# Altium footprint library libreriaPcb.PcbLib: 683 footprints (part 30 of 44)
Each footprint in its own frame and in the unit in brackets; x right, y up, seen from the top. Pads: shape width x height; smd on the part's side, far side on the other; paste and mask are expansions set on the pad; w line width, h text height; cw(c..) or ccw(c..) is an arc to the next point about the centre after c.
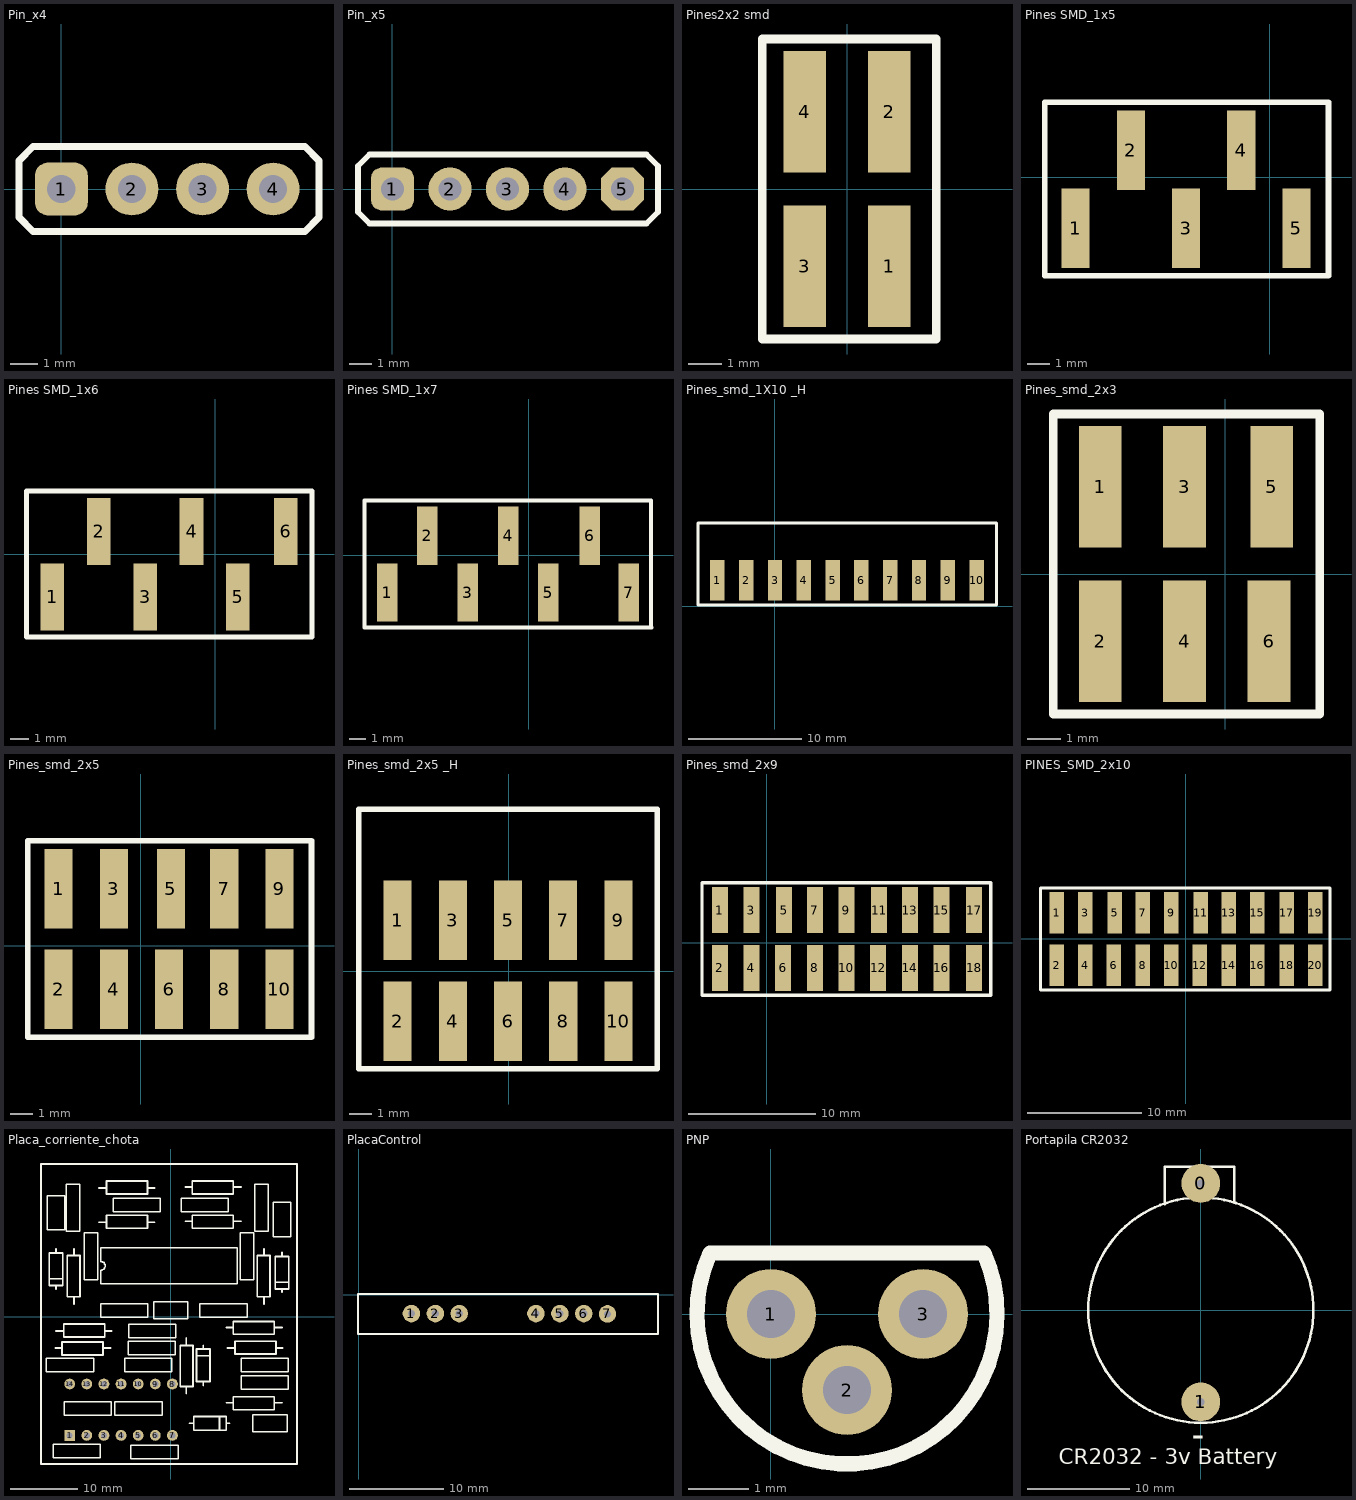
[diagram p29: the footprints below, top view; thin cyan lines are the x and y axes]

## Pin_x4 [mil]
pads (4):
  rrect50% 75x75 / inner round 0 / far side rrect50% 75x75 hole 40: 1(0,0)
  round 75 / inner round 0 / far side round 75 hole 40: 2(100,0) 3(200,0) 4(300,0)
Top Overlay:
  lines w10: -60,-40 -40,-60 345,-60 365,-40 365,40 345,60 -40,60 -60,40 -60,-40

## Pin_x5 [mil]
pads (5):
  rrect50% 75x75 / inner round 0 / far side rrect50% 75x75 hole 40: 1(0,0)
  round 75 / inner round 0 / far side round 75 hole 40: 2(100,0) 3(200,0) 4(300,0)
  oct 75x75 / inner round 0 / far side oct 75x75 hole 40: 5(400,0)
Top Overlay:
  lines w10: 441,60 -40,60 -60,40 -60,-40 -40,-60 442,-60 462,-40 462,40 442,60

## Pines2x2 smd [mm]
pads (4):
  rect 1.27x3.6 smd: 1(1.25,-2.286) 2(1.25,2.286) 3(-1.25,-2.286) 4(-1.25,2.286)
Top Overlay:
  lines w0.254: -2.509,-4.445 -2.509,4.445 2.647,4.445 2.647,-4.445 -2.509,-4.445
3D body: height 3, standoff 1, extent -2.357,-2.286 2.5,2.286
3D body: height 0.8, standoff 0, extent 0.869,-3.936 1.669,-0.636
3D body: height 10.2, standoff 0.2, extent -1.69,-1.669 -0.893,-0.871
3D body: height 10.2, standoff 0.2, extent 0.85,-1.669 1.647,-0.871
3D body: height 10.2, standoff 0.2, extent -1.69,0.871 -0.893,1.669
3D body: height 10.2, standoff 0.2, extent 0.85,0.871 1.647,1.669
3D body: height 0.8, standoff 0, extent -1.631,-3.936 -0.831,-0.636
3D body: height 0.8, standoff 0, extent -1.669,0.636 -0.869,3.936
3D body: height 0.8, standoff 0, extent 0.869,0.636 1.669,3.936

## Pines SMD_1x5 [mil]
pads (5):
  rect 50x141.73 smd: 1(-346,-91) 2(-247.57,48) 3(-149.15,-91) 4(-50.72,48) 5(47.43,-91)
Top Overlay:
  lines w10: -401,-176 105,-176 105,134 -401,134 -401,-176
3D body: height 401.57, standoff 7.87, extent -261.63,-31.71 -230.25,-0.28
3D body: height 401.57, standoff 7.87, extent -65.69,-32 -34.31,-0.57
3D body: height 401.57, standoff 7.87, extent -161.63,-33.71 -130.25,-2.28
3D body: height 401.57, standoff 7.87, extent -361.63,-33.71 -330.25,-2.28
3D body: height 31.5, standoff 0, extent -264.07,-16.96 -232.58,112.96
3D body: height 31.5, standoff 0, extent -67.22,-16.96 -35.73,112.96
3D body: height 31.5, standoff 0, extent -165.65,-155.96 -134.15,-26.04
3D body: height 31.5, standoff 0, extent -362.5,-155.96 -331,-26.04
3D body: height 31.5, standoff 0, extent 32.43,-155.96 63.92,-26.04
3D body: height 401.57, standoff 7.87, extent 33.37,-33.71 64.75,-2.28
3D body: height 31.5, standoff 0, extent -67.5,-16.96 -36,112.96
3D body: height 118.11, standoff 39.37, extent -393.21,-65.02 95,30

## Pines SMD_1x6 [mil]
pads (6):
  rect 50x141.73 smd: 1(-346,-91) 2(-247.57,48) 3(-149.15,-91) 4(-50.72,48) 5(47.43,-91) 6(149,48)
Top Overlay:
  lines w10: -401,-176 -401,134 205,134 205,-176 -401,-176
3D body: height 31.5, standoff 0, extent -67.5,-16.96 -36,112.96
3D body: height 401.57, standoff 7.87, extent 133.37,-31.71 164.75,-0.28
3D body: height 401.57, standoff 7.87, extent 33.37,-33.71 64.75,-2.28
3D body: height 31.5, standoff 0, extent 132.5,-16.96 164,112.96
3D body: height 31.5, standoff 0, extent 32.43,-155.96 63.92,-26.04
3D body: height 31.5, standoff 0, extent -362.5,-155.96 -331,-26.04
3D body: height 31.5, standoff 0, extent -165.65,-155.96 -134.15,-26.04
3D body: height 31.5, standoff 0, extent -67.22,-16.96 -35.73,112.96
3D body: height 31.5, standoff 0, extent -264.07,-16.96 -232.58,112.96
3D body: height 401.57, standoff 7.87, extent -361.63,-33.71 -330.25,-2.28
3D body: height 401.57, standoff 7.87, extent -161.63,-33.71 -130.25,-2.28
3D body: height 401.57, standoff 7.87, extent -65.69,-32 -34.31,-0.57
3D body: height 401.57, standoff 7.87, extent -261.63,-31.71 -230.25,-0.28
3D body: height 118.11, standoff 39.37, extent -393.21,-70 195,30

## Pines SMD_1x7 [mil]
pads (7):
  rect 50x141.73 smd: 1(-346,-91) 2(-247.57,48) 3(-149.15,-91) 4(-50.72,48) 5(47.43,-91) 6(149,48) 7(244.28,-91)
Top Overlay:
  lines w10: -106,-176 299,-176 ; 4,-176 -401,-176 -401,134 298,134 298,-176 189,-176
3D body: height 31.5, standoff 0, extent -67.5,-16.96 -36,112.96
3D body: height 401.57, standoff 7.87, extent 133.37,-31.71 164.75,-0.28
3D body: height 401.57, standoff 7.87, extent 33.37,-33.71 64.75,-2.28
3D body: height 31.5, standoff 0, extent 132.5,-16.96 164,112.96
3D body: height 31.5, standoff 0, extent 32.43,-155.96 63.92,-26.04
3D body: height 31.5, standoff 0, extent -362.5,-155.96 -331,-26.04
3D body: height 31.5, standoff 0, extent -165.65,-155.96 -134.15,-26.04
3D body: height 31.5, standoff 0, extent -67.22,-16.96 -35.73,112.96
3D body: height 31.5, standoff 0, extent -264.07,-16.96 -232.58,112.96
3D body: height 401.57, standoff 7.87, extent -361.63,-33.71 -330.25,-2.28
3D body: height 401.57, standoff 7.87, extent -161.63,-33.71 -130.25,-2.28
3D body: height 401.57, standoff 7.87, extent -65.69,-32 -34.31,-0.57
3D body: height 401.57, standoff 7.87, extent -261.63,-31.71 -230.25,-0.28
3D body: height 401.57, standoff 7.87, extent 230.31,-34.43 261.69,-3
3D body: height 118.11, standoff 39.37, extent -393.21,-114 294,66

## Pines_smd_1X10 _H [mm]
pads (10):
  rect 1.27x3.6 smd: 1(-5.075,2.3) 2(-2.535,2.3) 3(0.005,2.3) 4(2.545,2.3) 5(5.085,2.3) 6(7.625,2.3) 7(10.165,2.3) 8(12.705,2.3) 9(15.245,2.3) 10(17.785,2.3)
Top Overlay:
  lines w0.254: -6.8,0.125 -6.8,7.35 3.857,7.35 19.55,7.35 19.55,0.125 3.163,0.125 -6.8,0.125
3D body: height 6.1, standoff 0, extent -6.55,4.534 19.25,7.116
3D body: height 2.18, standoff 1.38, extent 4.68,2.825 5.477,9.825
3D body: height 1.78, standoff 0, extent 4.679,2.4 5.479,3.2
3D body: height 0.8, standoff 0, extent 4.679,1.325 5.479,2.825
3D body: height 2.18, standoff 1.38, extent 2.148,2.85 2.945,9.85
3D body: height 1.78, standoff 0, extent 2.147,2.425 2.947,3.225
3D body: height 0.8, standoff 0, extent 2.147,1.35 2.947,2.85
3D body: height 2.18, standoff 1.38, extent -0.384,2.875 0.413,9.875
3D body: height 1.78, standoff 0, extent -0.386,2.45 0.414,3.25
3D body: height 0.8, standoff 0, extent -0.386,1.375 0.414,2.875
3D body: height 2.18, standoff 1.38, extent -2.916,2.875 -2.119,9.875
3D body: height 1.78, standoff 0, extent -2.918,2.45 -2.118,3.25
3D body: height 0.8, standoff 0, extent -2.918,1.375 -2.118,2.875
3D body: height 0.8, standoff 0, extent -5.45,1.375 -4.65,2.875
3D body: height 1.78, standoff 0, extent -5.45,2.45 -4.65,3.25
3D body: height 2.18, standoff 1.38, extent -5.448,2.875 -4.652,9.875
3D body: height 2.18, standoff 1.38, extent 7.213,2.875 8.009,9.875
3D body: height 1.78, standoff 0, extent 7.211,2.45 8.011,3.25
3D body: height 0.8, standoff 0, extent 7.211,1.375 8.011,2.875
3D body: height 0.8, standoff 0, extent 9.743,1.375 10.543,2.875
3D body: height 1.78, standoff 0, extent 9.743,2.45 10.543,3.25
3D body: height 2.18, standoff 1.38, extent 9.745,2.875 10.542,9.875
3D body: height 0.8, standoff 0, extent 12.276,1.375 13.076,2.875
3D body: height 1.78, standoff 0, extent 12.276,2.45 13.075,3.25
3D body: height 2.18, standoff 1.38, extent 12.277,2.875 13.074,9.875
3D body: height 0.8, standoff 0, extent 14.808,1.35 15.608,2.85
3D body: height 1.78, standoff 0, extent 14.808,2.425 15.608,3.225
3D body: height 2.18, standoff 1.38, extent 14.809,2.85 15.606,9.85
3D body: height 0.8, standoff 0, extent 17.34,1.325 18.14,2.825
3D body: height 1.78, standoff 0, extent 17.34,2.4 18.14,3.2
3D body: height 2.18, standoff 1.38, extent 17.342,2.825 18.138,9.825

## Pines_smd_2x3 [mil]
pads (6):
  rect 50x141.73 smd: 1(-146,102) 2(-146,-78) 3(-47.57,102) 4(-47.57,-78) 5(54,102) 6(50.85,-78)
Top Overlay:
  lines w10: 94,-163 110.24,-163 ; 94,187 110.24,187 ; 110.24,-163 110.24,187 ; 110.24,-163 -201,-163 -201,187 110.24,187
3D body: height 118.11, standoff 39.37, extent -195.21,-78 102.36,102
3D body: height 31.5, standoff 0, extent -162.5,-142.96 -131,-13.04
3D body: height 31.5, standoff 0, extent -62.57,-142.96 -31.08,-13.04
3D body: height 31.5, standoff 0, extent 34.35,-142.96 65.85,-13.04
3D body: height 31.5, standoff 0, extent 37.5,37.04 69,166.96
3D body: height 31.5, standoff 0, extent -64.07,37.04 -32.58,166.96
3D body: height 401.57, standoff 7.87, extent -161.63,-53.71 -130.25,-22.28
3D body: height 401.57, standoff 7.87, extent -61.63,-53.71 -30.25,-22.28
3D body: height 401.57, standoff 7.87, extent 38.37,-53.71 69.75,-22.28
3D body: height 401.57, standoff 7.87, extent 38.37,46.29 69.75,77.72
3D body: height 401.57, standoff 7.87, extent -161.63,46.29 -130.25,77.72
3D body: height 401.57, standoff 7.87, extent -61.63,46.29 -30.25,77.72
3D body: height 31.5, standoff 0, extent -162.5,37.04 -131,166.96

## Pines_smd_2x5 [mil]
pads (10):
  rect 50x141.73 smd: 1(-146,102) 2(-146,-78) 3(-47.57,102) 4(-47.57,-78) 5(54,102) 6(50.85,-78) 7(149.28,102) 8(149.28,-78) 9(247.43,102) 10(247.43,-78)
Top Overlay:
  lines w10: 94,-163 305,-163 305,187 94,187 ; 204,-163 -201,-163 -201,187 204,187
3D body: height 118.11, standoff 39.37, extent -195.21,-78 199,102
3D body: height 118.11, standoff 39.37, extent 99.79,-78 300,102
3D body: height 31.5, standoff 0, extent -162.5,37.04 -131,166.96
3D body: height 401.57, standoff 7.87, extent -61.63,46.29 -30.25,77.72
3D body: height 401.57, standoff 7.87, extent -161.63,46.29 -130.25,77.72
3D body: height 401.57, standoff 7.87, extent 38.37,46.29 69.75,77.72
3D body: height 401.57, standoff 7.87, extent 138.37,46.29 169.75,77.72
3D body: height 401.57, standoff 7.87, extent 138.37,-53.71 169.75,-22.28
3D body: height 401.57, standoff 7.87, extent 38.37,-53.71 69.75,-22.28
3D body: height 401.57, standoff 7.87, extent -61.63,-53.71 -30.25,-22.28
3D body: height 401.57, standoff 7.87, extent -161.63,-53.71 -130.25,-22.28
3D body: height 31.5, standoff 0, extent -64.07,37.04 -32.58,166.96
3D body: height 31.5, standoff 0, extent 37.5,37.04 69,166.96
3D body: height 31.5, standoff 0, extent 132.78,37.04 164.27,166.96
3D body: height 31.5, standoff 0, extent 134.28,-142.96 165.77,-13.04
3D body: height 31.5, standoff 0, extent 34.35,-142.96 65.85,-13.04
3D body: height 31.5, standoff 0, extent -62.57,-142.96 -31.08,-13.04
3D body: height 31.5, standoff 0, extent -162.5,-142.96 -131,-13.04
3D body: height 31.5, standoff 0, extent 132.5,-142.96 164,-13.04
3D body: height 31.5, standoff 0, extent 232.43,-142.96 263.92,-13.04
3D body: height 31.5, standoff 0, extent 230.93,37.04 262.42,166.96
3D body: height 401.57, standoff 7.87, extent 133.37,-53.71 164.75,-22.28
3D body: height 401.57, standoff 7.87, extent 233.37,-53.71 264.75,-22.28
3D body: height 401.57, standoff 7.87, extent 133.37,46.29 164.75,77.72
3D body: height 401.57, standoff 7.87, extent 233.37,46.29 264.75,77.72
3D body: height 31.5, standoff 0, extent 132.5,37.04 164,166.96

## Pines_smd_2x5 _H [mm]
pads (10):
  rect 1.27x3.6 smd: 1(-5.033,2.316) 2(-5.033,-2.256) 3(-2.535,2.316) 4(-2.533,-2.256) 5(-0.037,2.316) 6(-0.033,-2.256) 7(2.461,2.316) 8(2.467,-2.256) 9(4.96,2.316) 10(4.96,-2.256)
Top Overlay:
  lines w0.254: 1.063,-4.415 6.725,-4.415 6.725,7.35 3.857,7.35 -6.8,7.35 -6.8,-4.415 3.857,-4.415
3D body: height 6.1, standoff 0, extent -6.55,4.534 6.475,7.116
3D body: height 2.18, standoff 1.38, extent -5.448,2.875 -4.652,9.875
3D body: height 1.78, standoff 0, extent -5.45,2.45 -4.65,3.25
3D body: height 4.72, standoff 3.92, extent -5.448,-1.825 -4.652,10.175
3D body: height 0.8, standoff 0, extent -5.45,1.375 -4.65,2.875
3D body: height 0.8, standoff 0, extent -2.925,1.375 -2.125,2.875
3D body: height 4.72, standoff 3.92, extent -2.923,-1.825 -2.127,10.175
3D body: height 1.78, standoff 0, extent -2.925,2.45 -2.125,3.25
3D body: height 2.18, standoff 1.38, extent -2.923,2.875 -2.127,9.875
3D body: height 0.8, standoff 0, extent -0.425,1.375 0.375,2.875
3D body: height 4.72, standoff 3.92, extent -0.423,-1.825 0.373,10.175
3D body: height 1.78, standoff 0, extent -0.425,2.45 0.375,3.25
3D body: height 2.18, standoff 1.38, extent -0.423,2.875 0.373,9.875
3D body: height 0.8, standoff 0, extent 2.075,1.35 2.875,2.85
3D body: height 4.72, standoff 3.92, extent 2.077,-1.85 2.873,10.15
3D body: height 1.78, standoff 0, extent 2.075,2.425 2.875,3.225
3D body: height 2.18, standoff 1.38, extent 2.077,2.85 2.873,9.85
3D body: height 0.8, standoff 0, extent 4.59,1.325 5.39,2.825
3D body: height 4.72, standoff 3.92, extent 4.592,-1.875 5.388,10.125
3D body: height 1.78, standoff 0, extent 4.59,2.4 5.39,3.2
3D body: height 2.18, standoff 1.38, extent 4.592,2.825 5.388,9.825
3D body: height 4.52, standoff 0.2, extent -5.475,-2.25 -4.675,-1.45
3D body: height 0.8, standoff 0, extent -5.45,-3.325 -4.65,-1.825
3D body: height 0.8, standoff 0, extent -2.925,-3.325 -2.125,-1.825
3D body: height 4.52, standoff 0.2, extent -2.95,-2.25 -2.15,-1.45
3D body: height 0.8, standoff 0, extent -0.425,-3.325 0.375,-1.825
3D body: height 4.52, standoff 0.2, extent -0.45,-2.25 0.35,-1.45
3D body: height 0.8, standoff 0, extent 2.075,-3.35 2.875,-1.85
3D body: height 4.52, standoff 0.2, extent 2.05,-2.275 2.85,-1.475
3D body: height 0.8, standoff 0, extent 4.59,-3.375 5.39,-1.875
3D body: height 4.52, standoff 0.2, extent 4.565,-2.3 5.365,-1.5

## Pines_smd_2x9 [mil]
pads (18):
  rect 50x141.73 smd: 1(-146,102) 2(-146,-78) 3(-47.57,102) 4(-47.57,-78) 5(54,102) 6(50.85,-78) 7(149.28,102) 8(149.28,-78) 9(247.43,102) 10(247.43,-78) 11(349,102) 12(345.85,-78) 13(444.28,102) 14(444.28,-78) 15(542.43,102) 16(542.43,-78) 17(644,102) 18(644.28,-78)
Top Overlay:
  lines w10: 94,-163 499,-163 ; 94,187 499,187 ; 204,-163 -201,-163 -201,187 204,187 ; 389,-163 696,-163 696,187 389,187
3D body: height 118.11, standoff 39.37, extent 99.79,-78 494,102
3D body: height 118.11, standoff 39.37, extent -195.21,-78 199,102
3D body: height 118.11, standoff 39.37, extent 394.79,-78 696,102
3D body: height 31.5, standoff 0, extent 427.5,37.04 459,166.96
3D body: height 401.57, standoff 7.87, extent 528.37,46.29 559.75,77.72
3D body: height 401.57, standoff 7.87, extent 428.37,46.29 459.75,77.72
3D body: height 401.57, standoff 7.87, extent 628.37,46.29 659.75,77.72
3D body: height 401.57, standoff 7.87, extent 628.37,-53.71 659.75,-22.28
3D body: height 401.57, standoff 7.87, extent 528.37,-53.71 559.75,-22.28
3D body: height 401.57, standoff 7.87, extent 428.37,-53.71 459.75,-22.28
3D body: height 31.5, standoff 0, extent 525.93,37.04 557.42,166.96
3D body: height 31.5, standoff 0, extent 627.5,37.04 659,166.96
3D body: height 31.5, standoff 0, extent 624.35,-142.96 655.85,-13.04
3D body: height 31.5, standoff 0, extent 527.43,-142.96 558.92,-13.04
3D body: height 31.5, standoff 0, extent 427.5,-142.96 459,-13.04
3D body: height 31.5, standoff 0, extent 132.5,37.04 164,166.96
3D body: height 401.57, standoff 7.87, extent 233.37,46.29 264.75,77.72
3D body: height 401.57, standoff 7.87, extent 133.37,46.29 164.75,77.72
3D body: height 401.57, standoff 7.87, extent 333.37,46.29 364.75,77.72
3D body: height 401.57, standoff 7.87, extent 433.37,46.29 464.75,77.72
3D body: height 401.57, standoff 7.87, extent 433.37,-53.71 464.75,-22.28
3D body: height 401.57, standoff 7.87, extent 333.37,-53.71 364.75,-22.28
3D body: height 401.57, standoff 7.87, extent 233.37,-53.71 264.75,-22.28
3D body: height 401.57, standoff 7.87, extent 133.37,-53.71 164.75,-22.28
3D body: height 31.5, standoff 0, extent 230.93,37.04 262.42,166.96
3D body: height 31.5, standoff 0, extent 332.5,37.04 364,166.96
3D body: height 31.5, standoff 0, extent 427.78,37.04 459.27,166.96
3D body: height 31.5, standoff 0, extent 429.28,-142.96 460.77,-13.04
3D body: height 31.5, standoff 0, extent 329.35,-142.96 360.85,-13.04
3D body: height 31.5, standoff 0, extent 232.43,-142.96 263.92,-13.04
3D body: height 31.5, standoff 0, extent 132.5,-142.96 164,-13.04
3D body: height 31.5, standoff 0, extent -162.5,-142.96 -131,-13.04
3D body: height 31.5, standoff 0, extent -62.57,-142.96 -31.08,-13.04
3D body: height 31.5, standoff 0, extent 34.35,-142.96 65.85,-13.04
3D body: height 31.5, standoff 0, extent 134.28,-142.96 165.77,-13.04
3D body: height 31.5, standoff 0, extent 132.78,37.04 164.27,166.96
3D body: height 31.5, standoff 0, extent 37.5,37.04 69,166.96
3D body: height 31.5, standoff 0, extent -64.07,37.04 -32.58,166.96
3D body: height 401.57, standoff 7.87, extent -161.63,-53.71 -130.25,-22.28
3D body: height 401.57, standoff 7.87, extent -61.63,-53.71 -30.25,-22.28
3D body: height 401.57, standoff 7.87, extent 38.37,-53.71 69.75,-22.28
3D body: height 401.57, standoff 7.87, extent 138.37,-53.71 169.75,-22.28
3D body: height 401.57, standoff 7.87, extent 138.37,46.29 169.75,77.72
3D body: height 401.57, standoff 7.87, extent 38.37,46.29 69.75,77.72
3D body: height 401.57, standoff 7.87, extent -161.63,46.29 -130.25,77.72
3D body: height 401.57, standoff 7.87, extent -61.63,46.29 -30.25,77.72
3D body: height 31.5, standoff 0, extent -162.5,37.04 -131,166.96
3D body: height 31.5, standoff 0, extent 629.28,-142.96 660.77,-13.04
3D body: height 31.5, standoff 0, extent 627.78,37.04 659.27,166.96
3D body: height 401.57, standoff 7.87, extent 633.37,-53.71 664.75,-22.28
3D body: height 401.57, standoff 7.87, extent 633.37,46.29 664.75,77.72
3D body: height 31.5, standoff 0, extent 627.5,-142.96 659,-13.04
3D body: height 401.57, standoff 7.87, extent 628.37,-53.71 659.75,-22.28
3D body: height 401.57, standoff 7.87, extent 628.37,46.29 659.75,77.72
3D body: height 31.5, standoff 0, extent 627.5,37.04 659,166.96

## PINES_SMD_2x10 [mm]
pads (20):
  rect 1.27x3.6 smd: 1(-11.283,2.286) 2(-11.283,-2.286) 3(-8.783,2.286) 4(-8.783,-2.286) 5(-6.203,2.286) 6(-6.283,-2.286) 7(-3.783,2.286) 8(-3.783,-2.286) 9(-1.29,2.286) 10(-1.29,-2.286) 11(1.29,2.286) 12(1.21,-2.286) 13(3.71,2.286) 14(3.71,-2.286) 15(6.203,2.286) 16(6.203,-2.286) 17(8.783,2.286) 18(8.79,-2.286) 19(11.283,2.286) 20(11.283,-2.286)
Top Overlay:
  lines w0.254: -5.187,-4.445 5.1,-4.445 ; -5.187,4.445 5.1,4.445 ; -2.393,-4.445 -12.68,-4.445 -12.68,4.445 -2.393,4.445 ; 2.306,-4.445 12.548,-4.445 12.548,4.445 2.306,4.445
3D body: height 3, standoff 1, extent -12.533,-2.286 -2.52,2.286
3D body: height 3, standoff 1, extent -5.04,-2.286 4.973,2.286
3D body: height 3, standoff 1, extent 2.453,-2.286 12.548,2.286
3D body: height 0.8, standoff 0, extent 8.364,0.636 9.164,3.936
3D body: height 10.2, standoff 0.2, extent 10.926,0.871 11.723,1.669
3D body: height 10.2, standoff 0.2, extent 8.386,0.871 9.183,1.669
3D body: height 10.2, standoff 0.2, extent 10.926,-1.669 11.723,-0.871
3D body: height 10.2, standoff 0.2, extent 8.386,-1.669 9.183,-0.871
3D body: height 0.8, standoff 0, extent 10.864,0.636 11.664,3.936
3D body: height 0.8, standoff 0, extent 10.902,-3.936 11.702,-0.636
3D body: height 0.8, standoff 0, extent 8.364,-3.936 9.164,-0.636
3D body: height 10.2, standoff 0.2, extent 8.513,0.871 9.31,1.669
3D body: height 10.2, standoff 0.2, extent 8.513,-1.669 9.31,-0.871
3D body: height 0.8, standoff 0, extent 8.371,0.636 9.171,3.936
3D body: height 0.8, standoff 0, extent 8.409,-3.936 9.209,-0.636
3D body: height 0.8, standoff 0, extent -11.702,0.636 -10.902,3.936
3D body: height 10.2, standoff 0.2, extent -9.14,0.871 -8.343,1.669
3D body: height 10.2, standoff 0.2, extent -11.68,0.871 -10.883,1.669
3D body: height 10.2, standoff 0.2, extent -6.6,0.871 -5.803,1.669
3D body: height 10.2, standoff 0.2, extent -4.06,0.871 -3.263,1.669
3D body: height 10.2, standoff 0.2, extent -4.06,-1.669 -3.263,-0.871
3D body: height 10.2, standoff 0.2, extent -6.6,-1.669 -5.803,-0.871
3D body: height 10.2, standoff 0.2, extent -9.14,-1.669 -8.343,-0.871
3D body: height 10.2, standoff 0.2, extent -11.68,-1.669 -10.883,-0.871
3D body: height 0.8, standoff 0, extent -9.202,0.636 -8.402,3.936
3D body: height 0.8, standoff 0, extent -6.622,0.636 -5.822,3.936
3D body: height 0.8, standoff 0, extent -4.202,0.636 -3.402,3.936
3D body: height 0.8, standoff 0, extent -4.164,-3.936 -3.364,-0.636
3D body: height 0.8, standoff 0, extent -6.702,-3.936 -5.902,-0.636
3D body: height 0.8, standoff 0, extent -9.164,-3.936 -8.364,-0.636
3D body: height 0.8, standoff 0, extent -11.702,-3.936 -10.902,-0.636
3D body: height 0.8, standoff 0, extent -4.209,-3.936 -3.409,-0.636
3D body: height 0.8, standoff 0, extent -1.671,-3.936 -0.871,-0.636
3D body: height 0.8, standoff 0, extent 0.791,-3.936 1.591,-0.636
3D body: height 0.8, standoff 0, extent 3.329,-3.936 4.129,-0.636
3D body: height 0.8, standoff 0, extent 3.291,0.636 4.091,3.936
3D body: height 0.8, standoff 0, extent 0.871,0.636 1.671,3.936
3D body: height 0.8, standoff 0, extent -1.709,0.636 -0.909,3.936
3D body: height 10.2, standoff 0.2, extent -4.187,-1.669 -3.39,-0.871
3D body: height 10.2, standoff 0.2, extent -1.647,-1.669 -0.85,-0.871
3D body: height 10.2, standoff 0.2, extent 0.893,-1.669 1.69,-0.871
3D body: height 10.2, standoff 0.2, extent 3.433,-1.669 4.23,-0.871
3D body: height 10.2, standoff 0.2, extent 3.433,0.871 4.23,1.669
3D body: height 10.2, standoff 0.2, extent 0.893,0.871 1.69,1.669
3D body: height 10.2, standoff 0.2, extent -4.187,0.871 -3.39,1.669
3D body: height 10.2, standoff 0.2, extent -1.647,0.871 -0.85,1.669
3D body: height 0.8, standoff 0, extent -4.209,0.636 -3.409,3.936
3D body: height 0.8, standoff 0, extent 3.284,-3.936 4.084,-0.636
3D body: height 0.8, standoff 0, extent 5.822,-3.936 6.622,-0.636
3D body: height 0.8, standoff 0, extent 8.284,-3.936 9.084,-0.636
3D body: height 0.8, standoff 0, extent 8.364,0.636 9.164,3.936
3D body: height 0.8, standoff 0, extent 5.784,0.636 6.584,3.936
3D body: height 10.2, standoff 0.2, extent 3.306,-1.669 4.103,-0.871
3D body: height 10.2, standoff 0.2, extent 5.846,-1.669 6.643,-0.871
3D body: height 10.2, standoff 0.2, extent 8.386,-1.669 9.183,-0.871
3D body: height 10.2, standoff 0.2, extent 8.386,0.871 9.183,1.669
3D body: height 10.2, standoff 0.2, extent 3.306,0.871 4.103,1.669
3D body: height 10.2, standoff 0.2, extent 5.846,0.871 6.643,1.669
3D body: height 0.8, standoff 0, extent 3.284,0.636 4.084,3.936

## Placa_corriente_chota [mm]
pads (14):
  rect 1.6x1.6 hole 0.9: 1(-14.961,-17.628)
  round 1.6 hole 0.9: 2(-12.421,-17.628) 3(-9.881,-17.628) 4(-7.341,-17.628) 5(-4.801,-17.628) 6(-2.261,-17.628) 7(0.279,-17.628) 8(0.279,-10.008) 9(-2.261,-10.008) 10(-4.801,-10.008) 11(-7.341,-10.008) 12(-9.881,-10.008) 13(-12.421,-10.008) 14(-14.961,-10.008)
Top Layer:
  lines w0.254: -7.341,-10.008 -7.239,-10.109
Top Overlay:
  drawing of 282 lines, arcs and shapes, not listed
Top Overlay keep-out:
  lines w0.254: -19.229,-21.874 18.771,-21.874 18.771,22.626 -19.229,22.626 -19.229,-21.874
3D body: height 5, standoff 4, extent -19.356,-22.001 18.898,22.753
3D body: height 4, standoff 0, extent -16.078,-18.588 1.489,-16.645
3D body: height 4, standoff 0, extent -15.977,-10.938 1.591,-8.995

## PlacaControl [mil]
pads (7):
  round 72.83 hole 30: 1(220.5,-79.5) 2(320.5,-79.5) 3(420.5,-79.5) 4(740.5,-79.5) 5(840.5,-79.5) 6(940.5,-79.5) 7(1039.5,-80.5)
Top Overlay:
  lines w10: -2.5,-164.5 -2.5,2.5 1250.5,2.5 1250.5,-164.5 -2.5,-164.5
3D body: height 389.71, standoff 161.47, extent 1054.65,-423 1283,-25.36
3D body: height 389.71, standoff 161.47, extent 606.65,-423 835,-25.36
3D body: height 397.64, standoff 393.7, extent 1168.5,-421 1177,-27
3D body: height 397.64, standoff 393.7, extent 720.5,-421 729,-27
3D body: height 157.48, standoff 118.11, extent 683,-116 1104,-26
3D body: height 157.48, standoff 118.11, extent 151,-120 491,-27
3D body: height 1614.17, standoff 39.37, extent -22,-26 1262,24
3D body: height 118.11, standoff 0, extent 202.79,-97.21 238.22,-61.78
3D body: height 118.11, standoff 0, extent 302.79,-97.21 338.22,-61.78
3D body: height 118.11, standoff 0, extent 402.79,-97.21 438.22,-61.78
3D body: height 118.11, standoff 0, extent 722.79,-97.21 758.22,-61.78
3D body: height 118.11, standoff 0, extent 822.79,-97.21 858.22,-61.78
3D body: height 118.11, standoff 0, extent 922.79,-97.21 958.22,-61.78
3D body: height 118.11, standoff 0, extent 1021.79,-98.21 1057.22,-62.78
3D body: height 393.7, standoff 157.48, extent 601.89,-420 838.11,-26.3
3D body: height 393.7, standoff 157.48, extent 1050.78,-420.85 1287,-27.15

## PNP [mm]
pads (3):
  round 1.5 hole 0.8: 1(0,0) 2(1.27,-1.27) 3(2.54,0)
Top Overlay:
  lines w0.254: -1.016,1.016 ccw(c1.27,0) 3.556,1.016 -1.016,1.016

## Portapila CR2032 [mil]
pads (2):
  round 150 hole 30: 0(0,490) 1(0,-355)
Top Overlay:
  circle w10: c0,0 r435.46
  lines w10: -140,410 -140,555 130,555 130,420
  text "-" at -35,-530 h100
  text "CR2032 - 3v Battery" at -550,-595 h60